# Altium footprint library CONNs.PcbLib: 18 footprints (part 1 of 2)
Each footprint in its own frame and in the unit in brackets; x right, y up, seen from the top. Pads: shape width x height; smd on the part's side, far side on the other; paste and mask are expansions set on the pad; w line width, h text height; cw(c..) or ccw(c..) is an arc to the next point about the centre after c.
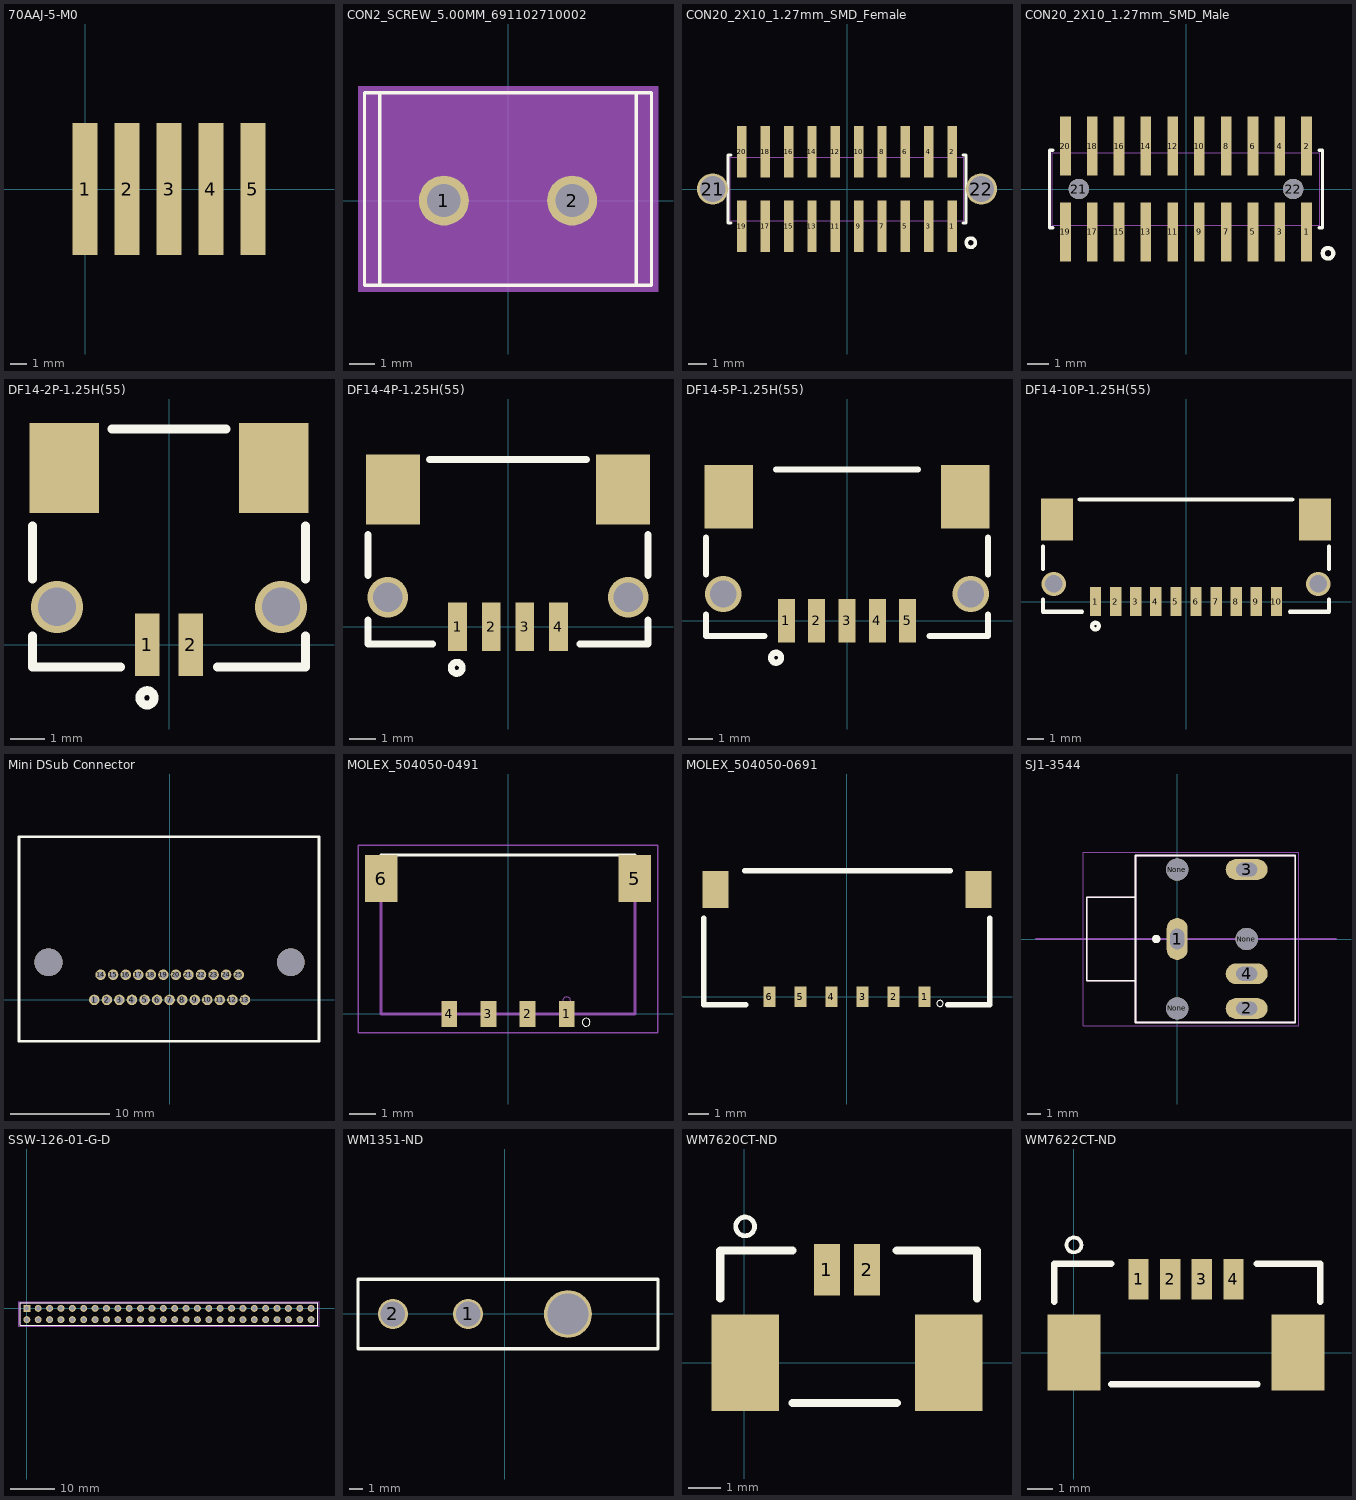
[diagram p0: the footprints below, top view; thin cyan lines are the x and y axes]

## 70AAJ-5-M0 [mm] "5 Pin Butterfly Connecter"
pads (5):
  rect 1.5x8 smd: 1(0,0) 2(2.54,0) 3(5.08,0) 4(7.62,0) 5(10.16,0)

## CON2_SCREW_5.00MM_691102710002 [mm] "2-Pos Screw terminal 5mm pitch"
height 9.9
pads (2):
  round 1.95 hole 1.3: 1(-2.5,0) 2(2.5,0)
Top Overlay:
  lines w0.127: -5,-3.3 -5,4.2 ; -5,-3.3 5,-3.3 ; -5,-3.3 -5.6,-3.3 -5.6,4.2 -5,4.2 ; -5,4.2 5,4.2 ; 5,-3.3 5,4.2 ; 5,-3.3 5.6,-3.3 5.6,4.2 5,4.2
Mechanical 4:
  text "1" at -3.65,-2.65 h1.88
  text "1" at -3.65,-2.65 h1.88
Mechanical 16:
  region: -5.85,4.45 5.85,4.45 5.85,-3.55 -5.85,-3.55
3D body: height 0.12, standoff -21.13, extent 0,0 0,0
3D body: height 0.12, standoff -21.13, extent -0.127,1.397 -0.127,1.397
3D body: height 0.12, standoff -21.13, extent 0,0 0,0
3D body: height 0.12, standoff -21.13, extent 5.08,6.604 5.08,6.604
3D body "Download_STP_691102710002 (rev1).stp": height 10.03, standoff -3.37, extent -5.981,-3.369 5.219,4.131
3D body: height 0.12, standoff -21.13, extent -0.762,-3.369 -0.762,-3.369

## CON20_2X10_1.27mm_SMD_Female [mil] "1.27mm pitch, 20 position female header. SAM9863-ND"
pads (22):
  rect 20x110 smd: 1(225,-80) 2(225,80) 3(175,-80) 4(175,80) 5(125,-80) 6(125,80) 7(75,-80) 8(75,80) 9(25,-80) 10(25,80) 11(-25,-80) 12(-25,80) 13(-75,-80) 14(-75,80) 15(-125,-80) 16(-125,80) 17(-175,-80) 18(-175,80) 19(-225,-80) 20(-225,80)
  round 66.93 / inner round 60 / far side round 38 hole 55.12: 21(-287.6,0) 22(287.6,0)
Top Overlay:
  circle w7.87: c265,-115 r9.84
  lines w6: -248.1,-72.5 -255,-72.5 -255,72.5 -248.1,72.5 ; 248.1,-72.5 255,-72.5 255,72.5 248.1,72.5
Mechanical 13:
  lines w1: -250,-67.5 -250,67.5 250,67.5 250,-67.5 -250,-67.5
3D body: height 10, standoff 0, extent 0,0 10,10
3D body "SAM9863-ND - 2X10 Female 50mil SMD v3.step": height 178.58, standoff -49.61, extent -310.03,-81.84 310.05,84.34

## CON20_2X10_1.27mm_SMD_Male [mil] "1.27mm pitch, 20 position female header. SAM11274-ND"
pads (22):
  rect 20x110 smd: 1(225,-80) 2(225,80) 3(175,-80) 4(175,80) 5(125,-80) 6(125,80) 7(75,-80) 8(75,80) 9(25,-80) 10(25,80) 11(-25,-80) 12(-25,80) 13(-75,-80) 14(-75,80) 15(-125,-80) 16(-125,80) 17(-175,-80) 18(-175,80) 19(-225,-80) 20(-225,80)
  round 38 / inner round 60 / far side round 38 hole 38: 21(-200,0) 22(200,0)
Top Overlay:
  circle w7.87: c265,-120 r9.84
  lines w6: -248.1,-72.5 -255,-72.5 -255,72.5 -248.1,72.5 ; 248.1,-72.5 255,-72.5 255,72.5 248.1,72.5
Mechanical 13:
  lines w1: -250,-67.5 -250,67.5 250,67.5 250,-67.5 -250,-67.5
3D body "SAM11274-ND - 2X10 Male 50mil SMD v1.step": height 264.62, standoff -0.38, extent -249.02,-116.14 250.99,113.86

## DF14-2P-1.25H(55) [mm]
height 2.5
pads (4):
  rect 0.7x1.8 smd: 1(-0.625,0) 2(0.625,0)
  rect 2x2.6 smd: ""(-3.025,5.1) ""(3.025,5.1)
via 3.225,1.1 diameter 1.5 hole 1.1
via -3.225,1.1 diameter 1.5 hole 1.1
Top Overlay:
  circle w0.254: c-0.635,-1.524 r0.207
  lines w0.254: -3.937,0.254 -3.937,-0.635 -1.397,-0.635 ; -3.937,1.905 -3.937,3.429 ; -1.651,6.223 -0.826,6.223 0.826,6.223 1.651,6.223 ; 1.397,-0.635 3.937,-0.635 3.937,0.254 ; 3.937,1.905 3.937,3.429
3D body "DF14A-2P-1.25H v1.step": height 2.5, standoff 0, extent -3.725,-0.475 3.725,6.225

## DF14-4P-1.25H(55) [mm]
height 2.5
pads (6):
  rect 0.7x1.8 smd: 1(-1.875,0) 2(-0.625,0) 3(0.625,0) 4(1.875,0)
  rect 2x2.6 smd: ""(-4.275,5.1) ""(4.275,5.1)
via 4.475,1.1 diameter 1.5 hole 1.1
via -4.475,1.1 diameter 1.5 hole 1.1
Top Overlay:
  circle w0.254: c-1.905,-1.524 r0.207
  lines w0.254: -5.207,0.254 -5.207,-0.635 -2.794,-0.635 ; -5.207,1.905 -5.207,3.429 ; -2.921,6.223 2.921,6.223 ; 2.667,-0.635 5.207,-0.635 5.207,0.254 ; 5.207,1.905 5.207,3.429
3D body "DF14-4P-1.25H v2.step": height 2.5, standoff -0.4, extent -4.95,-0.475 5,6.225

## DF14-5P-1.25H(55) [mm]
height 2.5
pads (7):
  rect 0.7x1.8 smd: 1(-2.5,0) 2(-1.25,0) 3(0,0) 4(1.25,0) 5(2.5,0)
  rect 2x2.6 smd: ""(-4.875,5.1) ""(4.875,5.1)
via 5.1,1.1 diameter 1.5 hole 1.1
via -5.1,1.1 diameter 1.5 hole 1.1
Top Overlay:
  circle w0.254: c-2.921,-1.524 r0.207
  lines w0.254: -5.807,0.254 -5.807,-0.635 -3.394,-0.635 ; -5.807,1.905 -5.807,3.429 ; -2.921,6.223 2.921,6.223 ; 3.394,-0.635 5.807,-0.635 5.807,0.254 ; 5.807,1.905 5.807,3.429
3D body "DF14-5P-1.25H v1.step": height 2.3, standoff -0.8, extent -5.6,-0.5 5.6,6.2

## DF14-10P-1.25H(55) [mm]
height 2.5
pads (12):
  rect 0.7x1.8 smd: 1(-5.625,0) 2(-4.375,0) 3(-3.125,0) 4(-1.875,0) 5(-0.625,0) 6(0.625,0) 7(1.875,0) 8(3.125,0) 9(4.375,0) 10(5.625,0)
  rect 2x2.6 smd: ""(-8.025,5.1) ""(8.025,5.1)
via -8.225,1.1 diameter 1.5 hole 1.1
via 8.225,1.1 diameter 1.5 hole 1.1
Top Overlay:
  circle w0.254: c-5.625,-1.524 r0.207
  lines w0.254: -8.89,0.127 -8.89,-0.635 -6.477,-0.635 ; -8.89,2.032 -8.89,3.429 ; -6.604,6.35 6.604,6.35 ; 6.477,-0.635 8.89,-0.635 8.89,0.127 8.89,0 8.89,-0.381 ; 8.89,2.032 8.89,3.429
3D body "DF14A-10P-1.25H v2.step": height 2.49, standoff -0.01, extent -8.725,-0.5 8.725,6.2

## Mini DSub Connector [mil]
pads (25):
  round 42 hole 28: 1(-300,0) 2(-250,0) 3(-200,0) 4(-150,0) 5(-100,0) 6(-50,0) 7(0,0) 8(50,0) 9(100,0) 10(150,0) 11(200,0) 12(250,0) 13(300,0) 14(-275,100) 15(-225,100) 16(-175,100) 17(-125,100) 18(-75,100) 19(-25,100) 20(25,100) 21(75,100) 22(125,100) 23(175,100) 24(225,100) 25(275,100)
via 482.5,150 diameter 110 hole 110
via -482.5,150 diameter 110 hole 110
Top Overlay:
  lines w10: -600,-165 -600,650 595,650 595,-165 -600,-165
3D body: height 10, standoff 0, extent -9.84,246.06 -9.84,246.06
3D body "[MiniD] 836149012 v1.step": height 356.91, standoff -60.09, extent -594,-37.67 588.34,623.33

## MOLEX_504050-0491 [mm]
pads (6):
  rect 0.6x1 smd: 1(2.25,0) 2(0.75,0) 3(-0.75,0) 4(-2.25,0)
  rect 1.25x1.8 smd: 5(4.855,5.19) 6(-4.855,5.19)
Top Overlay:
  circle w0: c2.997,-0.32 r0.15
  lines w0.127: -4.875,6.1 4.875,6.1
Mechanical 4:
  circle w0: c2.25,0.5 r0.15
  circle w0: c2.25,0.5 r0.15
  lines w0.127: -4.875,0 -4.875,6.1 -4.875,0 ; -4.875,0 4.875,0 ; -4.875,0 4.875,0 ; 4.875,0 4.875,6.1 4.875,0
Mechanical 16:
  lines w0.05: -5.75,-0.725 -5.75,6.475 5.75,6.475 5.75,-0.725 -5.75,-0.725
3D body "504050-0491--3DModel-STEP-1.STEP": height 2.15, standoff 0, extent -5.275,-0.34 5.275,6.1

## MOLEX_504050-0691 [mm] "Molex connector to antenna"
height 2
pads (8):
  rect 0.6x1 smd: 1(3.762,0) 2(2.262,0) 3(0.762,0) 4(-0.738,0) 5(-2.238,0) 6(-3.738,0)
  rect 1.25x1.8 smd: ""(-6.343,5.19) ""(6.367,5.19)
Top Overlay:
  circle w0: c4.509,-0.32 r0.15
  lines w0.254: -6.921,3.81 -6.921,-0.381 -4.889,-0.381 ; -4.946,6.096 5.017,6.096 ; 4.89,-0.381 6.922,-0.381 6.922,3.81

## SJ1-3544 [mm] "3.5mm audio jack"
height 11
pads (7):
  oval 1.508x3.016 hole 1 slot 1.5 at 90 deg: 1(0,0)
  oval 3.016x1.508 hole 1 slot 1.5 at 0 deg: 2(5,-5) 3(5,5) 4(5,-2.5)
  round 1.6 hole 1.6 unplated: None(0,-5) None(0,5) None(5,0)
Top Overlay:
  circle w0.3: c-1.5,0 r0.15
  lines w0.127: -3,-3 -3,3 ; -3,-3 -3,-6 8.5,-6 8.5,6 -3,6 -3,3 ; -3,-3 -6.5,-3 -6.5,3 -3,3
Mechanical 1:
  lines w0.127: -10.16,0 11.43,0 ; -3,-3 -3,-6 8.5,-6 8.5,6 -3,6 -3,3 ; -3,-3 -3,3 ; -3,-3 -6.5,-3 -6.5,3 -3,3
Mechanical 4:
  lines w0: -0.5,-0.75 0.5,-0.75 0.5,0.75 -0.5,0.75 -0.5,-0.75 ; 4.25,-5.5 4.25,-4.5 5.75,-4.5 5.75,-5.5 4.25,-5.5 ; 4.25,-3 4.25,-2 5.75,-2 5.75,-3 4.25,-3 ; 4.25,4.5 4.25,5.5 5.75,5.5 5.75,4.5 4.25,4.5
  lines w0.05: -6.75,-6.25 8.75,-6.25 8.75,6.25 -6.75,6.25 -6.75,-6.25
3D body "[RBF] CUI_SJ1-3544 v1.step": height 11.4, standoff -3.6, extent -6.5,-6 8.5,6.2
3D body: height 9.96, standoff -6.83, extent 2,2.5 2,2.5

## SSW-126-01-G-D [mm] "Elevated Socket, 2x26 Pins, Vertical, 2.54mm Pitch, Female"
height 8.51
pads (52):
  rect 1.55x1.55 hole 1.02: 1(0,0)
  round 1.55 hole 1.02: 2(0,-2.54) 3(2.54,0) 4(2.54,-2.54) 5(5.08,0) 6(5.08,-2.54) 7(7.62,0) 8(7.62,-2.54) 9(10.16,0) 10(10.16,-2.54) 11(12.7,0) 12(12.7,-2.54) 13(15.24,0) 14(15.24,-2.54) 15(17.78,0) 16(17.78,-2.54) 17(20.32,0) 18(20.32,-2.54) 19(22.86,0) 20(22.86,-2.54) 21(25.4,0) 22(25.4,-2.54) 23(27.94,0) 24(27.94,-2.54) 25(30.48,0) 26(30.48,-2.54) 27(33.02,0) 28(33.02,-2.54) 29(35.56,0) 30(35.56,-2.54) 31(38.1,0) 32(38.1,-2.54) 33(40.64,0) 34(40.64,-2.54) 35(43.18,0) 36(43.18,-2.54) 37(45.72,0) 38(45.72,-2.54) 39(48.26,0) 40(48.26,-2.54) 41(50.8,0) 42(50.8,-2.54) 43(53.34,0) 44(53.34,-2.54) 45(55.88,0) 46(55.88,-2.54) 47(58.42,0) 48(58.42,-2.54) 49(60.96,0) 50(60.96,-2.54) 51(63.5,0) 52(63.5,-2.54)
Top Overlay:
  lines w0.2: -1.525,-3.745 -1.525,1.205 65.025,1.205 65.025,-3.745 -1.525,-3.745
Mechanical 13:
  lines w0.1: -1.525,-3.745 65.025,-3.745 65.025,1.205 -1.525,1.205 -1.525,-3.745
Mechanical 15:
  lines w0.05: -1.75,-3.97 -1.75,1.43 65.25,1.43 65.25,-3.97 -1.75,-3.97
3D body "SSW-126-01-G-D.stp": height 8.51, standoff -2.64, extent -1.524,-3.746 65.024,1.207

## WM1351-ND [mm]
height 9.6
pads (3):
  round 2.2 hole 1.8: 1(-2.66,0) 2(-8.16,0)
  round 3.5 hole 3: ""(4.64,0)
Top Overlay:
  lines w0.254: -10.71,-2.55 11.22,-2.55 11.22,2.55 -10.71,2.55 -10.71,-2.55
3D body "039301020.stp": height 11.4, standoff -3.6, extent -8.824,-2.879 11.11,2.921

## WM7620CT-ND [mm] "Molex PicoBlade 53261 2 Pos"
height 3.2
pads (4):
  rect 0.8x1.6 smd: 1(2.575,2.9) 2(3.825,2.9)
  rect 2.1x3 smd: ""(0.025,0) ""(6.375,0)
Top Overlay:
  circle w0.15: c0.025,4.25 r0.293
  lines w0.254: -0.75,2 -0.75,3.5 1.5,3.5 ; 1.5,-1.25 4.75,-1.25 ; 4.75,3.5 7.25,3.5 7.25,2
3D body "[PicoBlade 2 Pos] 532610271.stp": height 3.4, standoff 0, extent -0.575,-1.838 7.075,3.362

## WM7622CT-ND [mm] "Molex 4-Pos PicoBlade 53261"
height 3.2
pads (6):
  rect 0.8x1.6 smd: 1(2.55,2.9) 2(3.8,2.9) 3(5.05,2.9) 4(6.3,2.9)
  rect 2.1x3 smd: ""(0,0) ""(8.85,0)
Top Overlay:
  circle w0.15: c0,4.25 r0.293
  lines w0.254: -0.775,2 -0.775,3.5 1.475,3.5 ; 1.475,-1.25 7.25,-1.25 ; 7.225,3.5 9.725,3.5 9.725,2
3D body "[PicoBlade 4 Pos] 532610471.stp": height 3.4, standoff 0, extent -0.63,-1.771 9.52,3.429